# Altium schematic symbol library ASURT_LATCH.SchLib: 3 symbols
Pins are listed as number, name and electrical type; pins without a type are passive.

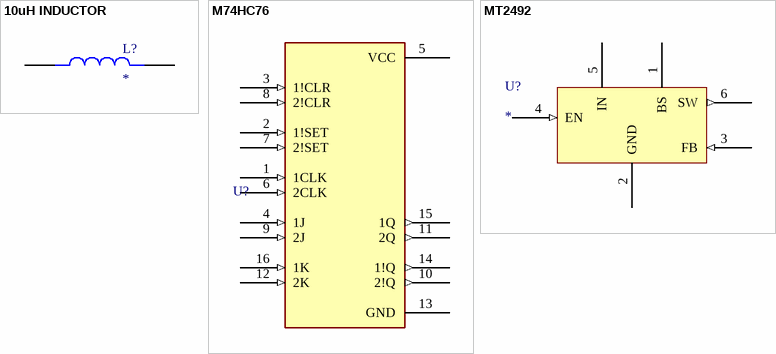
[diagram p0: symbols 10uH INDUCTOR to MT2492]

## 10uH INDUCTOR
designator L?
footprint PCBComponent_1 - duplicate1
pins: 1, 2

## M74HC76
designator U?
dual J-K flip-flop with preset and clear
footprint PCBComponent_1
pins: 1 1CLK (in), 2 1!SET (in), 3 1!CLR (in), 4 1J (in), 5 VCC (power), 6 2CLK (in), 7 2!SET (in), 8 2!CLR (in), 9 2J (in), 10 2!Q (out), 11 2Q (out), 12 2K (in), 13 GND (power), 14 1!Q (out), 15 1Q (out), 16 1K (in)

## MT2492
designator U?
DC-DC step-down converter (buck converter)
footprint PCBComponent_1 - duplicate
pins: 1 BS (power), 2 GND (power), 3 FB (in), 4 EN (in), 5 IN (power), 6 SW (out)